# Altium integrated library TI Amplifiers and Linear Operational Amplifier Fully Differential Amplifier.IntLib: 262 symbols (part 9 of 11)
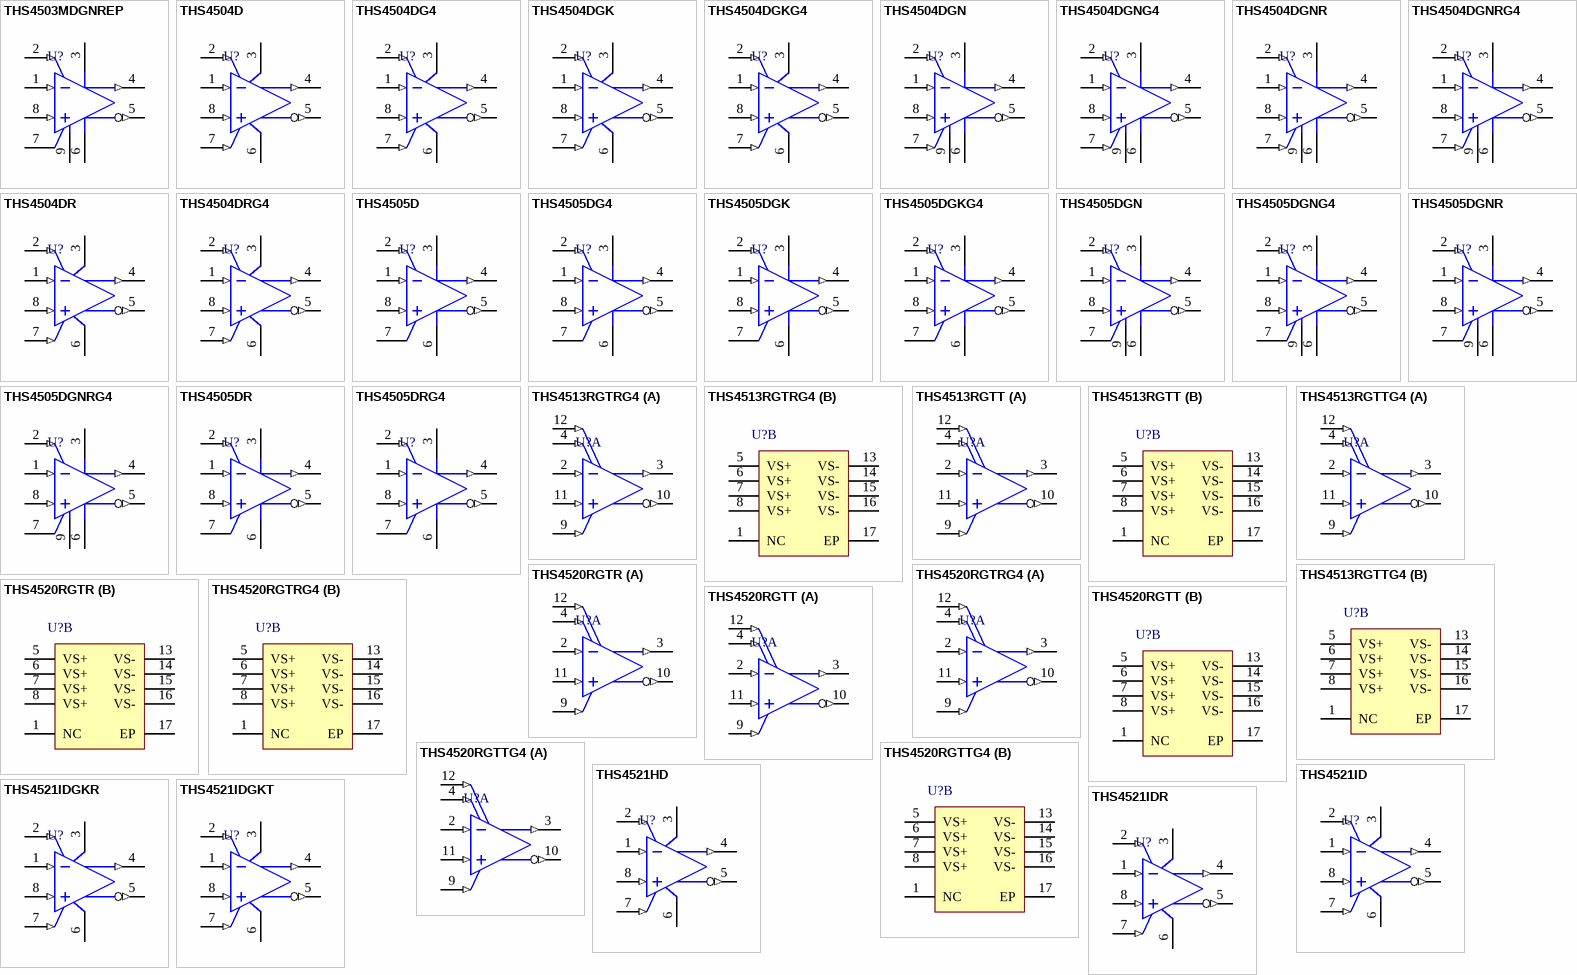
[diagram p15: symbols THS4503MDGNREP to THS4521IDR]

## THS4505DGK
designator U?
Wideband, Low-Distortion Fully Differential Amplifier, 4.5 to 15 V, -40 to 85 degC, 8-pin SOP (DGK8), Green (RoHS & no Sb/Br); Manufacturer: Texas Instruments; PartNumber: THS4505DGK; 2nd Harmonic(dBc): 66; 3rd Harmonic(dBc): 65; @ MHz: 30; BW @ Acl(MHz): 260; Io(Typ)(mA): 100; Iq per channel(Max)(mA): 21; Number of Channels: 1; Offset Voltage Drift (+/-)(Max)(uV/Degrees Celsius: 10; Settling Time (0.1%)(Typ)(ns): 20; Slew Rate(Typ)(V/us): 1800; THD (Fc is 1 MHz)(Typ)(dB): -78; Vio(Max)(mV): -7; Vn at Flatband(Typ)(nV/rtHz): 8; Vs(Max)(V): 15; Vs(Min)(V): 4.5; DatasheetVersion: SLOS363D; PackageVersion: 4073329/E, 05/2006; PackageReference: DGK8; PackageDescription: 8-Pin Thin Small Outline, Body 3 x 3 mm, Pitch 0.65 mm; Supplier 1: Digi-Key; Supplier Part Number 1: 296-16791-5-ND; Supplier 2: Farnell; Supplier Part Number 2: 1534479; Supplier 3: Newark; Supplier Part Number 3: 01J0893; Supplier 4: Mouser; Supplier Part Number 4: 595-THS4505DGK; Eco-Plan: Green (RoHS & no Sb/Br); SubFamily: Fully Differential Amplifier; Mounting Technology: Surface Mount; Code_JEDEC: MO-187; ComponentLink1Description: Manufacturer URL; ComponentLink1URL: http://www.ti.com/; ComponentLink2Description: Datasheet; ComponentLink2URL: http://www.ti.com/general/docs/lit/getliterature.tsp?genericPartNumber=THS4505&fileType=pdf; ComponentLink3Description: Package Specification; ComponentLink3URL: http://www.ti.com/litv/pdf/mpds028d
footprint TI-DGK8_N (SOP, 8-Leads, Body 3x3mm, Pitch 0.65mm, IPC Medium Density)
footprint TI-DGK8_L (SOP, 8-Leads, Body 3x3mm, Pitch 0.65mm, IPC High Density)
footprint TI-DGK8_M (SOP, 8-Leads, Body 3x3mm, Pitch 0.65mm, IPC Low Density)
pins: 1 VIN- (in), 2 VOCM (in), 3 VS+ (power), 4 VOUT+ (out), 5 VOUT- (out), 6 VS- (power), 7 NC, 8 VIN+ (in)

## THS4505DGKG4
designator U?
Wideband, Low-Distortion Fully Differential Amplifier, 4.5 to 15 V, -40 to 85 degC, 8-pin SOP (DGK8), Green (RoHS & no Sb/Br); Manufacturer: Texas Instruments; PartNumber: THS4505DGKG4; 2nd Harmonic(dBc): 66; 3rd Harmonic(dBc): 65; @ MHz: 30; BW @ Acl(MHz): 260; Io(Typ)(mA): 100; Iq per channel(Max)(mA): 21; Number of Channels: 1; Offset Voltage Drift (+/-)(Max)(uV/Degrees Celsius: 10; Settling Time (0.1%)(Typ)(ns): 20; Slew Rate(Typ)(V/us): 1800; THD (Fc is 1 MHz)(Typ)(dB): -78; Vio(Max)(mV): -7; Vn at Flatband(Typ)(nV/rtHz): 8; Vs(Max)(V): 15; Vs(Min)(V): 4.5; DatasheetVersion: SLOS363D; PackageVersion: 4073329/E, 05/2006; PackageReference: DGK8; PackageDescription: 8-Pin Thin Small Outline, Body 3 x 3 mm, Pitch 0.65 mm; Supplier 1: Digi-Key; Supplier Part Number 1: THS4505DGKG4-ND; Supplier 2: Mouser; Supplier Part Number 2: 595-THS4505DGKG4; Eco-Plan: Green (RoHS & no Sb/Br); SubFamily: Fully Differential Amplifier; Mounting Technology: Surface Mount; Code_JEDEC: MO-187; ComponentLink1Description: Manufacturer URL; ComponentLink1URL: http://www.ti.com/; ComponentLink2Description: Datasheet; ComponentLink2URL: http://www.ti.com/general/docs/lit/getliterature.tsp?genericPartNumber=THS4505&fileType=pdf; ComponentLink3Description: Package Specification; ComponentLink3URL: http://www.ti.com/litv/pdf/mpds028d
footprint TI-DGK8_N (SOP, 8-Leads, Body 3x3mm, Pitch 0.65mm, IPC Medium Density)
footprint TI-DGK8_L (SOP, 8-Leads, Body 3x3mm, Pitch 0.65mm, IPC High Density)
footprint TI-DGK8_M (SOP, 8-Leads, Body 3x3mm, Pitch 0.65mm, IPC Low Density)
pins: 1 VIN- (in), 2 VOCM (in), 3 VS+ (power), 4 VOUT+ (out), 5 VOUT- (out), 6 VS- (power), 7 NC, 8 VIN+ (in)

## THS4505DGN
designator U?
Wideband, Low-Distortion Fully Differential Amplifier, 4.5 to 15 V, -40 to 85 degC, 8-pin SOP (DGN8), Green (RoHS & no Sb/Br); Manufacturer: Texas Instruments; PartNumber: THS4505DGN; 2nd Harmonic(dBc): 66; 3rd Harmonic(dBc): 65; @ MHz: 30; BW @ Acl(MHz): 260; Io(Typ)(mA): 100; Iq per channel(Max)(mA): 21; Number of Channels: 1; Offset Voltage Drift (+/-)(Max)(uV/Degrees Celsius: 10; Settling Time (0.1%)(Typ)(ns): 20; Slew Rate(Typ)(V/us): 1800; THD (Fc is 1 MHz)(Typ)(dB): -78; Vio(Max)(mV): -7; Vn at Flatband(Typ)(nV/rtHz): 8; Vs(Max)(V): 15; Vs(Min)(V): 4.5; DatasheetVersion: SLOS363D; PackageVersion: 4073271/F, 05/2011; PackageReference: DGN8-1760X1425TP; PackageDescription: 8-Pin Plastic Small Outline, Body 3 x 3 mm, Pitch 0.65 mm; Supplier 1: Digi-Key; Supplier Part Number 1: 296-15621-5-ND; Supplier 2: Newark; Supplier Part Number 2: 02E7138; Supplier 3: Mouser; Supplier Part Number 3: 595-THS4505DGN; Eco-Plan: Green (RoHS & no Sb/Br); SubFamily: Fully Differential Amplifier; Mounting Technology: Surface Mount; Code_JEDEC: MO-187; ComponentLink1Description: Manufacturer URL; ComponentLink1URL: http://www.ti.com/; ComponentLink2Description: Datasheet; ComponentLink2URL: http://www.ti.com/general/docs/lit/getliterature.tsp?genericPartNumber=THS4505&fileType=pdf; ComponentLink3Description: Package Specification; ComponentLink3URL: http://www.ti.com/litv/pdf/mpds046e
footprint TI-DGN8-1760X1425TP_N (SOP, 8-Leads, Body 3x3mm, Pitch 0.65mm, Thermal Pad 1.76x1.425mm, IPC Medium Density)
footprint TI-DGN8-1760X1425TP_L (SOP, 8-Leads, Body 3x3mm, Pitch 0.65mm, Thermal Pad 1.76x1.425mm, IPC High Density)
footprint TI-DGN8-1760X1425TP_M (SOP, 8-Leads, Body 3x3mm, Pitch 0.65mm, Thermal Pad 1.76 x 1.425 mm, IPC Low Density)
pins: 1 VIN- (in), 2 VOCM (in), 3 VS+ (power), 4 VOUT+ (out), 5 VOUT- (out), 6 VS- (power), 7 NC, 8 VIN+ (in), 9 EP

## THS4505DGNG4
designator U?
Wideband, Low-Distortion Fully Differential Amplifier, 4.5 to 15 V, -40 to 85 degC, 8-pin SOP (DGN8), Green (RoHS & no Sb/Br); Manufacturer: Texas Instruments; PartNumber: THS4505DGNG4; 2nd Harmonic(dBc): 66; 3rd Harmonic(dBc): 65; @ MHz: 30; BW @ Acl(MHz): 260; Io(Typ)(mA): 100; Iq per channel(Max)(mA): 21; Number of Channels: 1; Offset Voltage Drift (+/-)(Max)(uV/Degrees Celsius: 10; Settling Time (0.1%)(Typ)(ns): 20; Slew Rate(Typ)(V/us): 1800; THD (Fc is 1 MHz)(Typ)(dB): -78; Vio(Max)(mV): -7; Vn at Flatband(Typ)(nV/rtHz): 8; Vs(Max)(V): 15; Vs(Min)(V): 4.5; DatasheetVersion: SLOS363D; PackageVersion: 4073271/F, 05/2011; PackageReference: DGN8-1760X1425TP; PackageDescription: 8-Pin Plastic Small Outline, Body 3 x 3 mm, Pitch 0.65 mm; Supplier 1: Digi-Key; Supplier Part Number 1: THS4505DGNG4-ND; Supplier 2: Mouser; Supplier Part Number 2: 595-THS4505DGNG4; Eco-Plan: Green (RoHS & no Sb/Br); SubFamily: Fully Differential Amplifier; Mounting Technology: Surface Mount; Code_JEDEC: MO-187; ComponentLink1Description: Manufacturer URL; ComponentLink1URL: http://www.ti.com/; ComponentLink2Description: Datasheet; ComponentLink2URL: http://www.ti.com/general/docs/lit/getliterature.tsp?genericPartNumber=THS4505&fileType=pdf; ComponentLink3Description: Package Specification; ComponentLink3URL: http://www.ti.com/litv/pdf/mpds046e
footprint TI-DGN8-1760X1425TP_N (SOP, 8-Leads, Body 3x3mm, Pitch 0.65mm, Thermal Pad 1.76x1.425mm, IPC Medium Density)
footprint TI-DGN8-1760X1425TP_L (SOP, 8-Leads, Body 3x3mm, Pitch 0.65mm, Thermal Pad 1.76x1.425mm, IPC High Density)
footprint TI-DGN8-1760X1425TP_M (SOP, 8-Leads, Body 3x3mm, Pitch 0.65mm, Thermal Pad 1.76 x 1.425 mm, IPC Low Density)
pins: 1 VIN- (in), 2 VOCM (in), 3 VS+ (power), 4 VOUT+ (out), 5 VOUT- (out), 6 VS- (power), 7 NC, 8 VIN+ (in), 9 EP

## THS4505DGNR
designator U?
Wideband, Low-Distortion Fully Differential Amplifier, 4.5 to 15 V, -40 to 85 degC, 8-pin SOP (DGN8), Green (RoHS & no Sb/Br); Manufacturer: Texas Instruments; PartNumber: THS4505DGNR; 2nd Harmonic(dBc): 66; 3rd Harmonic(dBc): 65; @ MHz: 30; BW @ Acl(MHz): 260; Io(Typ)(mA): 100; Iq per channel(Max)(mA): 21; Number of Channels: 1; Offset Voltage Drift (+/-)(Max)(uV/Degrees Celsius: 10; Settling Time (0.1%)(Typ)(ns): 20; Slew Rate(Typ)(V/us): 1800; THD (Fc is 1 MHz)(Typ)(dB): -78; Vio(Max)(mV): -7; Vn at Flatband(Typ)(nV/rtHz): 8; Vs(Max)(V): 15; Vs(Min)(V): 4.5; DatasheetVersion: SLOS363D; PackageVersion: 4073271/F, 05/2011; PackageReference: DGN8-1760X1425TP; PackageDescription: 8-Pin Plastic Small Outline, Body 3 x 3 mm, Pitch 0.65 mm; Supplier 1: Digi-Key; Supplier Part Number 1: THS4505DGNR-ND; Supplier 2: Mouser; Supplier Part Number 2: 595-THS4505DGNR; Eco-Plan: Green (RoHS & no Sb/Br); SubFamily: Fully Differential Amplifier; Mounting Technology: Surface Mount; Code_JEDEC: MO-187; ComponentLink1Description: Manufacturer URL; ComponentLink1URL: http://www.ti.com/; ComponentLink2Description: Datasheet; ComponentLink2URL: http://www.ti.com/general/docs/lit/getliterature.tsp?genericPartNumber=THS4505&fileType=pdf; ComponentLink3Description: Package Specification; ComponentLink3URL: http://www.ti.com/litv/pdf/mpds046e
footprint TI-DGN8-1760X1425TP_N (SOP, 8-Leads, Body 3x3mm, Pitch 0.65mm, Thermal Pad 1.76x1.425mm, IPC Medium Density)
footprint TI-DGN8-1760X1425TP_L (SOP, 8-Leads, Body 3x3mm, Pitch 0.65mm, Thermal Pad 1.76x1.425mm, IPC High Density)
footprint TI-DGN8-1760X1425TP_M (SOP, 8-Leads, Body 3x3mm, Pitch 0.65mm, Thermal Pad 1.76 x 1.425 mm, IPC Low Density)
pins: 1 VIN- (in), 2 VOCM (in), 3 VS+ (power), 4 VOUT+ (out), 5 VOUT- (out), 6 VS- (power), 7 NC, 8 VIN+ (in), 9 EP

## THS4505DGNRG4
designator U?
Wideband, Low-Distortion Fully Differential Amplifier, 4.5 to 15 V, -40 to 85 degC, 8-pin SOP (DGN8), Green (RoHS & no Sb/Br); Manufacturer: Texas Instruments; PartNumber: THS4505DGNRG4; 2nd Harmonic(dBc): 66; 3rd Harmonic(dBc): 65; @ MHz: 30; BW @ Acl(MHz): 260; Io(Typ)(mA): 100; Iq per channel(Max)(mA): 21; Number of Channels: 1; Offset Voltage Drift (+/-)(Max)(uV/Degrees Celsius: 10; Settling Time (0.1%)(Typ)(ns): 20; Slew Rate(Typ)(V/us): 1800; THD (Fc is 1 MHz)(Typ)(dB): -78; Vio(Max)(mV): -7; Vn at Flatband(Typ)(nV/rtHz): 8; Vs(Max)(V): 15; Vs(Min)(V): 4.5; DatasheetVersion: SLOS363D; PackageVersion: 4073271/F, 05/2011; PackageReference: DGN8-1760X1425TP; PackageDescription: 8-Pin Plastic Small Outline, Body 3 x 3 mm, Pitch 0.65 mm; Supplier 1: Digi-Key; Supplier Part Number 1: THS4505DGNRG4-ND; Supplier 2: Mouser; Supplier Part Number 2: 595-THS4505DGNRG4; Eco-Plan: Green (RoHS & no Sb/Br); SubFamily: Fully Differential Amplifier; Mounting Technology: Surface Mount; Code_JEDEC: MO-187; ComponentLink1Description: Manufacturer URL; ComponentLink1URL: http://www.ti.com/; ComponentLink2Description: Datasheet; ComponentLink2URL: http://www.ti.com/general/docs/lit/getliterature.tsp?genericPartNumber=THS4505&fileType=pdf; ComponentLink3Description: Package Specification; ComponentLink3URL: http://www.ti.com/litv/pdf/mpds046e
footprint TI-DGN8-1760X1425TP_N (SOP, 8-Leads, Body 3x3mm, Pitch 0.65mm, Thermal Pad 1.76x1.425mm, IPC Medium Density)
footprint TI-DGN8-1760X1425TP_L (SOP, 8-Leads, Body 3x3mm, Pitch 0.65mm, Thermal Pad 1.76x1.425mm, IPC High Density)
footprint TI-DGN8-1760X1425TP_M (SOP, 8-Leads, Body 3x3mm, Pitch 0.65mm, Thermal Pad 1.76 x 1.425 mm, IPC Low Density)
pins: 1 VIN- (in), 2 VOCM (in), 3 VS+ (power), 4 VOUT+ (out), 5 VOUT- (out), 6 VS- (power), 7 NC, 8 VIN+ (in), 9 EP

## THS4505DR
designator U?
Wideband, Low-Distortion Fully Differential Amplifier, 4.5 to 15 V, -40 to 85 degC, 8-pin SOIC (D8), Green (RoHS & no Sb/Br); Manufacturer: Texas Instruments; PartNumber: THS4505DR; 2nd Harmonic(dBc): 66; 3rd Harmonic(dBc): 65; @ MHz: 30; BW @ Acl(MHz): 260; Io(Typ)(mA): 100; Iq per channel(Max)(mA): 21; Number of Channels: 1; Offset Voltage Drift (+/-)(Max)(uV/Degrees Celsius: 10; Settling Time (0.1%)(Typ)(ns): 20; Slew Rate(Typ)(V/us): 1800; THD (Fc is 1 MHz)(Typ)(dB): -78; Vio(Max)(mV): -7; Vn at Flatband(Typ)(nV/rtHz): 8; Vs(Max)(V): 15; Vs(Min)(V): 4.5; DatasheetVersion: SLOS363D; PackageVersion: 4040047-3/M, 06/2011; PackageReference: D8; PackageDescription: 8-Pin Plastic Small Outline, Body 4.9 x 3.9 mm, Pitch 1.27 mm; Supplier 1: Digi-Key; Supplier Part Number 1: THS4505DR-ND; Supplier 2: Mouser; Supplier Part Number 2: 595-THS4505DR; Eco-Plan: Green (RoHS & no Sb/Br); SubFamily: Fully Differential Amplifier; Mounting Technology: Surface Mount; Code_JEDEC: MS-012; ComponentLink1Description: Manufacturer URL; ComponentLink1URL: http://www.ti.com/; ComponentLink2Description: Datasheet; ComponentLink2URL: http://www.ti.com/general/docs/lit/getliterature.tsp?genericPartNumber=THS4505&fileType=pdf; ComponentLink3Description: Package Specification; ComponentLink3URL: http://www.ti.com/litv/pdf/msoi002j
footprint TI-D8_N (SOIC, 8-Leads, Body 4.9x3.9mm, Pitch 1.27mm, IPC Medium Density)
footprint TI-D8_L (SOIC, 8-Leads, Body 4.9x3.9mm, Pitch 1.27mm, IPC High Density)
footprint TI-D8_M (SOIC, 8-Leads, Body 4.9x3.9mm, Pitch 1.27mm, IPC Low Density)
pins: 1 VIN- (in), 2 VOCM (in), 3 VS+ (power), 4 VOUT+ (out), 5 VOUT- (out), 6 VS- (power), 7 NC, 8 VIN+ (in)

## THS4505DRG4
designator U?
Wideband, Low-Distortion Fully Differential Amplifier, 4.5 to 15 V, -40 to 85 degC, 8-pin SOIC (D8), Green (RoHS & no Sb/Br); Manufacturer: Texas Instruments; PartNumber: THS4505DRG4; 2nd Harmonic(dBc): 66; 3rd Harmonic(dBc): 65; @ MHz: 30; BW @ Acl(MHz): 260; Io(Typ)(mA): 100; Iq per channel(Max)(mA): 21; Number of Channels: 1; Offset Voltage Drift (+/-)(Max)(uV/Degrees Celsius: 10; Settling Time (0.1%)(Typ)(ns): 20; Slew Rate(Typ)(V/us): 1800; THD (Fc is 1 MHz)(Typ)(dB): -78; Vio(Max)(mV): -7; Vn at Flatband(Typ)(nV/rtHz): 8; Vs(Max)(V): 15; Vs(Min)(V): 4.5; DatasheetVersion: SLOS363D; PackageVersion: 4040047-3/M, 06/2011; PackageReference: D8; PackageDescription: 8-Pin Plastic Small Outline, Body 4.9 x 3.9 mm, Pitch 1.27 mm; Supplier 1: Digi-Key; Supplier Part Number 1: THS4505DRG4-ND; Supplier 2: Mouser; Supplier Part Number 2: 595-THS4505DRG4; Eco-Plan: Green (RoHS & no Sb/Br); SubFamily: Fully Differential Amplifier; Mounting Technology: Surface Mount; Code_JEDEC: MS-012; ComponentLink1Description: Manufacturer URL; ComponentLink1URL: http://www.ti.com/; ComponentLink2Description: Datasheet; ComponentLink2URL: http://www.ti.com/general/docs/lit/getliterature.tsp?genericPartNumber=THS4505&fileType=pdf; ComponentLink3Description: Package Specification; ComponentLink3URL: http://www.ti.com/litv/pdf/msoi002j
footprint TI-D8_N (SOIC, 8-Leads, Body 4.9x3.9mm, Pitch 1.27mm, IPC Medium Density)
footprint TI-D8_L (SOIC, 8-Leads, Body 4.9x3.9mm, Pitch 1.27mm, IPC High Density)
footprint TI-D8_M (SOIC, 8-Leads, Body 4.9x3.9mm, Pitch 1.27mm, IPC Low Density)
pins: 1 VIN- (in), 2 VOCM (in), 3 VS+ (power), 4 VOUT+ (out), 5 VOUT- (out), 6 VS- (power), 7 NC, 8 VIN+ (in)

## THS4513RGTRG4
designator U?
Wideband, Low Noise, Low Distortion Fully Differential Amplifier, 3 to 5.5 V, -40 to 85 degC, 16-pin QFN (RGT), Green (RoHS & no Sb/Br); Manufacturer: Texas Instruments; PartNumber: THS4513RGTRG4; 2nd Harmonic(dBc): 66; 3rd Harmonic(dBc): 81; @ MHz: 100; BW @ Acl(MHz): 1600; Io(Typ)(mA): 96; Iq per channel(Max)(mA): 40.9; Number of Channels: 1; Offset Voltage Drift (+/-)(Max)(uV/Degrees Celsius: 2.6; Settling Time (0.1%)(Typ)(ns): 16; Slew Rate(Typ)(V/us): 5100; THD (Fc is 1 MHz)(Typ)(dB): -97; Vio(Max)(mV): 4; Vn at Flatband(Typ)(nV/rtHz): 2.2; Vs(Max)(V): 5.5; Vs(Min)(V): 3; DatasheetVersion: SLOS472E; PackageVersion: 4203495/H, 10/2011; PackageReference: RGT16-1450X1450TP; PackageDescription: 16-Pin Plastic Flat Pack, Body 3 x 3 mm, Pitch 0.5 mm; Supplier 1: Digi-Key; Supplier Part Number 1: THS4513RGTRG4-ND; Supplier 2: Mouser; Supplier Part Number 2: 595-THS4513RGTRG4; Eco-Plan: Green (RoHS & no Sb/Br); SubFamily: Fully Differential Amplifier; Mounting Technology: Surface Mount; Code_JEDEC: MO-220; ComponentLink1Description: Manufacturer URL; ComponentLink1URL: http://www.ti.com/; ComponentLink2Description: Datasheet; ComponentLink2URL: http://www.ti.com/general/docs/lit/getliterature.tsp?genericPartNumber=THS4513&fileType=pdf; ComponentLink3Description: Package Specification; ComponentLink3URL: http://www.ti.com/litv/pdf/mpqf119g
footprint TI-RGT16-1450X1450TP_V (QFN, 16-Leads, Body 3x3mm, Pitch 0.5mm, Thermal Pad 1.45x1.45mm)
part A pins: 2 VIN- (in) "Inverting amplifier input", 3 VOUT+ (out) "Noninverting amplifier output", 4 CM (in) "Common-mode voltage input", 9 CM (in) "Common-mode voltage input", 10 VOUT- (out) "Inverting amplifier output", 11 VIN+ (in) "Noninverting amplifier input", 12 ~{PD} (in) "Power-down, P\D\ = logic low puts part into low-power mode, P\D\ = logic high or open for normal operation"
part B pins: 1 NC "No internal connection", 5 VS+ (power) "Positive amplifier power-supply input", 6 VS+ (power) "Positive amplifier power-supply input", 7 VS+ (power) "Positive amplifier power-supply input", 8 VS+ (power) "Positive amplifier power-supply input", 13 VS- (power) "Negative amplifier power-supply input", 14 VS- (power) "Negative amplifier power-supply input", 15 VS- (power) "Negative amplifier power-supply input", 16 VS- (power) "Negative amplifier power-supply input", 17 EP (power)

## THS4513RGTT
designator U?
Wideband, Low Noise, Low Distortion Fully Differential Amplifier, 3 to 5.5 V, -40 to 85 degC, 16-pin QFN (RGT), Green (RoHS & no Sb/Br); Manufacturer: Texas Instruments; PartNumber: THS4513RGTT; 2nd Harmonic(dBc): 66; 3rd Harmonic(dBc): 81; @ MHz: 100; BW @ Acl(MHz): 1600; Io(Typ)(mA): 96; Iq per channel(Max)(mA): 40.9; Number of Channels: 1; Offset Voltage Drift (+/-)(Max)(uV/Degrees Celsius: 2.6; Settling Time (0.1%)(Typ)(ns): 16; Slew Rate(Typ)(V/us): 5100; THD (Fc is 1 MHz)(Typ)(dB): -97; Vio(Max)(mV): 4; Vn at Flatband(Typ)(nV/rtHz): 2.2; Vs(Max)(V): 5.5; Vs(Min)(V): 3; DatasheetVersion: SLOS472E; PackageVersion: 4203495/H, 10/2011; PackageReference: RGT16-1450X1450TP; PackageDescription: 16-Pin Plastic Flat Pack, Body 3 x 3 mm, Pitch 0.5 mm; Supplier 1: Digi-Key; Supplier Part Number 1: 296-18594-2-ND; Supplier 2: Digi-Key; Supplier Part Number 2: 296-18594-1-ND; Supplier 3: Digi-Key; Supplier Part Number 3: 296-18594-6-ND; Supplier 4: Mouser; Supplier Part Number 4: 595-THS4513RGTT; Eco-Plan: Green (RoHS & no Sb/Br); SubFamily: Fully Differential Amplifier; Mounting Technology: Surface Mount; Code_JEDEC: MO-220; ComponentLink1Description: Manufacturer URL; ComponentLink1URL: http://www.ti.com/; ComponentLink2Description: Datasheet; ComponentLink2URL: http://www.ti.com/general/docs/lit/getliterature.tsp?genericPartNumber=THS4513&fileType=pdf; ComponentLink3Description: Package Specification; ComponentLink3URL: http://www.ti.com/litv/pdf/mpqf119g
footprint TI-RGT16-1450X1450TP_V (QFN, 16-Leads, Body 3x3mm, Pitch 0.5mm, Thermal Pad 1.45x1.45mm)
part A pins: 2 VIN- (in) "Inverting amplifier input", 3 VOUT+ (out) "Noninverting amplifier output", 4 CM (in) "Common-mode voltage input", 9 CM (in) "Common-mode voltage input", 10 VOUT- (out) "Inverting amplifier output", 11 VIN+ (in) "Noninverting amplifier input", 12 ~{PD} (in) "Power-down, P\D\ = logic low puts part into low-power mode, P\D\ = logic high or open for normal operation"
part B pins: 1 NC "No internal connection", 5 VS+ (power) "Positive amplifier power-supply input", 6 VS+ (power) "Positive amplifier power-supply input", 7 VS+ (power) "Positive amplifier power-supply input", 8 VS+ (power) "Positive amplifier power-supply input", 13 VS- (power) "Negative amplifier power-supply input", 14 VS- (power) "Negative amplifier power-supply input", 15 VS- (power) "Negative amplifier power-supply input", 16 VS- (power) "Negative amplifier power-supply input", 17 EP (power)

## THS4513RGTTG4
designator U?
Wideband, Low Noise, Low Distortion Fully Differential Amplifier, 3 to 5.5 V, -40 to 85 degC, 16-pin QFN (RGT), Green (RoHS & no Sb/Br); Manufacturer: Texas Instruments; PartNumber: THS4513RGTTG4; 2nd Harmonic(dBc): 66; 3rd Harmonic(dBc): 81; @ MHz: 100; BW @ Acl(MHz): 1600; Io(Typ)(mA): 96; Iq per channel(Max)(mA): 40.9; Number of Channels: 1; Offset Voltage Drift (+/-)(Max)(uV/Degrees Celsius: 2.6; Settling Time (0.1%)(Typ)(ns): 16; Slew Rate(Typ)(V/us): 5100; THD (Fc is 1 MHz)(Typ)(dB): -97; Vio(Max)(mV): 4; Vn at Flatband(Typ)(nV/rtHz): 2.2; Vs(Max)(V): 5.5; Vs(Min)(V): 3; DatasheetVersion: SLOS472E; PackageVersion: 4203495/H, 10/2011; PackageReference: RGT16-1450X1450TP; PackageDescription: 16-Pin Plastic Flat Pack, Body 3 x 3 mm, Pitch 0.5 mm; Supplier 1: Digi-Key; Supplier Part Number 1: THS4513RGTTG4-ND; Supplier 2: Newark; Supplier Part Number 2: 85K1607; Supplier 3: Mouser; Supplier Part Number 3: 595-THS4513RGTTG4; Eco-Plan: Green (RoHS & no Sb/Br); SubFamily: Fully Differential Amplifier; Mounting Technology: Surface Mount; Code_JEDEC: MO-220; ComponentLink1Description: Manufacturer URL; ComponentLink1URL: http://www.ti.com/; ComponentLink2Description: Datasheet; ComponentLink2URL: http://www.ti.com/general/docs/lit/getliterature.tsp?genericPartNumber=THS4513&fileType=pdf; ComponentLink3Description: Package Specification; ComponentLink3URL: http://www.ti.com/litv/pdf/mpqf119g
footprint TI-RGT16-1450X1450TP_V (QFN, 16-Leads, Body 3x3mm, Pitch 0.5mm, Thermal Pad 1.45x1.45mm)
part A pins: 2 VIN- (in) "Inverting amplifier input", 3 VOUT+ (out) "Noninverting amplifier output", 4 CM (in) "Common-mode voltage input", 9 CM (in) "Common-mode voltage input", 10 VOUT- (out) "Inverting amplifier output", 11 VIN+ (in) "Noninverting amplifier input", 12 ~{PD} (in) "Power-down, P\D\ = logic low puts part into low-power mode, P\D\ = logic high or open for normal operation"
part B pins: 1 NC "No internal connection", 5 VS+ (power) "Positive amplifier power-supply input", 6 VS+ (power) "Positive amplifier power-supply input", 7 VS+ (power) "Positive amplifier power-supply input", 8 VS+ (power) "Positive amplifier power-supply input", 13 VS- (power) "Negative amplifier power-supply input", 14 VS- (power) "Negative amplifier power-supply input", 15 VS- (power) "Negative amplifier power-supply input", 16 VS- (power) "Negative amplifier power-supply input", 17 EP (power)

## THS4520RGTR
designator U?
Rail-to-Rail Output Wideband Fully Differential Amplifier, 3 to 5.25 V, -40 to 85 degC, 16-pin QFN (RGT16), Green (RoHS & no Sb/Br); Manufacturer: Texas Instruments; PartNumber: THS4520RGTR; 2nd Harmonic(dBc): 115; 3rd Harmonic(dBc): 123; @ MHz: 0.1; BW @ Acl(MHz): 620; Io(Typ)(mA): 105; Iq per channel(Max)(mA): 15.3; Number of Channels: 1; Rail-Rail: Out; Settling Time (0.1%)(Typ)(ns): 7; Slew Rate(Typ)(V/us): 570; Vio(Max)(mV): 2.5; Vn at Flatband(Typ)(nV/rtHz): 2; Vs(Max)(V): 5.25; Vs(Min)(V): 3; DatasheetVersion: SLOS503B; PackageVersion: 4203495/H, 10/2011; PackageReference: RGT16-1450X1450TP; PackageDescription: 16-Pin Plastic Flat Pack, Body 3 x 3 mm, Pitch 0.5 mm; Supplier 1: Digi-Key; Supplier Part Number 1: THS4520RGTR-ND; Supplier 2: Newark; Supplier Part Number 2: 18M3153; Supplier 3: Mouser; Supplier Part Number 3: 595-THS4520RGTR; Eco-Plan: Green (RoHS & no Sb/Br); Offset Voltage Drift (+/-)(Max)(uV/Degrees Celsius: 1; SubFamily: Fully Differential Amplifier; Mounting Technology: Surface Mount; Code_JEDEC: MO-220; ComponentLink1Description: Manufacturer URL; ComponentLink1URL: http://www.ti.com/; ComponentLink2Description: Datasheet; ComponentLink2URL: http://www.ti.com/general/docs/lit/getliterature.tsp?genericPartNumber=THS4520&fileType=pdf; ComponentLink3Description: Package Specification; ComponentLink3URL: http://www.ti.com/litv/pdf/mpqf119g
footprint TI-RGT16-1450X1450TP_V (QFN, 16-Leads, Body 3x3mm, Pitch 0.5mm, Thermal Pad 1.45x1.45mm)
part A pins: 2 VIN- (in) "Inverting amplifier input", 3 VOUT+ (out) "Noninverting amplifier output", 4 CM (in) "Common-mode voltage input", 9 CM (in) "Common-mode voltage input", 10 VOUT- (out) "Inverted amplifier output", 11 VIN+ (in) "Noninverting amplifier input", 12 ~{PD} (in) "Powerdown, P\D\ = logic low puts part into low power mode, P\D\ = logic high or open for normal operation. If the PD pin is open (unterminated) the device will default to the enabled state."
part B pins: 1 NC "No internal connection", 5 VS+ (power) "Positive amplifier power supply input", 6 VS+ (power) "Positive amplifier power supply input", 7 VS+ (power) "Positive amplifier power supply input", 8 VS+ (power) "Positive amplifier power supply input", 13 VS- (power) "Negative amplifier power-supply input", 14 VS- (power) "Negative amplifier power-supply input", 15 VS- (power) "Negative amplifier power-supply input", 16 VS- (power) "Negative amplifier power-supply input", 17 EP

## THS4520RGTRG4
designator U?
Rail-to-Rail Output Wideband Fully Differential Amplifier, 3 to 5.25 V, -40 to 85 degC, 16-pin QFN (RGT16), Green (RoHS & no Sb/Br); Manufacturer: Texas Instruments; PartNumber: THS4520RGTRG4; 2nd Harmonic(dBc): 115; 3rd Harmonic(dBc): 123; @ MHz: 0.1; BW @ Acl(MHz): 620; Io(Typ)(mA): 105; Iq per channel(Max)(mA): 15.3; Number of Channels: 1; Rail-Rail: Out; Settling Time (0.1%)(Typ)(ns): 7; Slew Rate(Typ)(V/us): 570; Vio(Max)(mV): 2.5; Vn at Flatband(Typ)(nV/rtHz): 2; Vs(Max)(V): 5.25; Vs(Min)(V): 3; DatasheetVersion: SLOS503B; PackageVersion: 4203495/H, 10/2011; PackageReference: RGT16-1450X1450TP; PackageDescription: 16-Pin Plastic Flat Pack, Body 3 x 3 mm, Pitch 0.5 mm; Supplier 1: Digi-Key; Supplier Part Number 1: THS4520RGTRG4-ND; Supplier 2: Mouser; Supplier Part Number 2: 595-THS4520RGTRG4; Eco-Plan: Green (RoHS & no Sb/Br); Offset Voltage Drift (+/-)(Max)(uV/Degrees Celsius: 1; SubFamily: Fully Differential Amplifier; Mounting Technology: Surface Mount; Code_JEDEC: MO-220; ComponentLink1Description: Manufacturer URL; ComponentLink1URL: http://www.ti.com/; ComponentLink2Description: Datasheet; ComponentLink2URL: http://www.ti.com/general/docs/lit/getliterature.tsp?genericPartNumber=THS4520&fileType=pdf; ComponentLink3Description: Package Specification; ComponentLink3URL: http://www.ti.com/litv/pdf/mpqf119g
footprint TI-RGT16-1450X1450TP_V (QFN, 16-Leads, Body 3x3mm, Pitch 0.5mm, Thermal Pad 1.45x1.45mm)
part A pins: 2 VIN- (in) "Inverting amplifier input", 3 VOUT+ (out) "Noninverting amplifier output", 4 CM (in) "Common-mode voltage input", 9 CM (in) "Common-mode voltage input", 10 VOUT- (out) "Inverted amplifier output", 11 VIN+ (in) "Noninverting amplifier input", 12 ~{PD} (in) "Powerdown, P\D\ = logic low puts part into low power mode, P\D\ = logic high or open for normal operation. If the PD pin is open (unterminated) the device will default to the enabled state."
part B pins: 1 NC "No internal connection", 5 VS+ (power) "Positive amplifier power supply input", 6 VS+ (power) "Positive amplifier power supply input", 7 VS+ (power) "Positive amplifier power supply input", 8 VS+ (power) "Positive amplifier power supply input", 13 VS- (power) "Negative amplifier power-supply input", 14 VS- (power) "Negative amplifier power-supply input", 15 VS- (power) "Negative amplifier power-supply input", 16 VS- (power) "Negative amplifier power-supply input", 17 EP

## THS4520RGTT
designator U?
Rail-to-Rail Output Wideband Fully Differential Amplifier, 3 to 5.25 V, -40 to 85 degC, 16-pin QFN (RGT16), Green (RoHS & no Sb/Br); Manufacturer: Texas Instruments; PartNumber: THS4520RGTT; 2nd Harmonic(dBc): 115; 3rd Harmonic(dBc): 123; @ MHz: 0.1; BW @ Acl(MHz): 620; Io(Typ)(mA): 105; Iq per channel(Max)(mA): 15.3; Number of Channels: 1; Rail-Rail: Out; Settling Time (0.1%)(Typ)(ns): 7; Slew Rate(Typ)(V/us): 570; Vio(Max)(mV): 2.5; Vn at Flatband(Typ)(nV/rtHz): 2; Vs(Max)(V): 5.25; Vs(Min)(V): 3; DatasheetVersion: SLOS503B; PackageVersion: 4203495/H, 10/2011; PackageReference: RGT16-1450X1450TP; PackageDescription: 16-Pin Plastic Flat Pack, Body 3 x 3 mm, Pitch 0.5 mm; Supplier 1: Digi-Key; Supplier Part Number 1: 296-20774-2-ND; Supplier 2: Digi-Key; Supplier Part Number 2: 296-20774-1-ND; Supplier 3: Digi-Key; Supplier Part Number 3: 296-20774-6-ND; Supplier 4: Newark; Supplier Part Number 4: 18M3154; Supplier 5: Newark; Supplier Part Number 5: 28X4464; Supplier 6: Mouser; Supplier Part Number 6: 595-THS4520RGTT; Eco-Plan: Green (RoHS & no Sb/Br); Offset Voltage Drift (+/-)(Max)(uV/Degrees Celsius: 1; SubFamily: Fully Differential Amplifier; Mounting Technology: Surface Mount; Code_JEDEC: MO-220; ComponentLink1Description: Manufacturer URL; ComponentLink1URL: http://www.ti.com/; ComponentLink2Description: Datasheet; ComponentLink2URL: http://www.ti.com/general/docs/lit/getliterature.tsp?genericPartNumber=THS4520&fileType=pdf; ComponentLink3Description: Package Specification; ComponentLink3URL: http://www.ti.com/litv/pdf/mpqf119g
footprint TI-RGT16-1450X1450TP_V (QFN, 16-Leads, Body 3x3mm, Pitch 0.5mm, Thermal Pad 1.45x1.45mm)
part A pins: 2 VIN- (in) "Inverting amplifier input", 3 VOUT+ (out) "Noninverting amplifier output", 4 CM (in) "Common-mode voltage input", 9 CM (in) "Common-mode voltage input", 10 VOUT- (out) "Inverted amplifier output", 11 VIN+ (in) "Noninverting amplifier input", 12 ~{PD} (in) "Powerdown, P\D\ = logic low puts part into low power mode, P\D\ = logic high or open for normal operation. If the PD pin is open (unterminated) the device will default to the enabled state."
part B pins: 1 NC "No internal connection", 5 VS+ (power) "Positive amplifier power supply input", 6 VS+ (power) "Positive amplifier power supply input", 7 VS+ (power) "Positive amplifier power supply input", 8 VS+ (power) "Positive amplifier power supply input", 13 VS- (power) "Negative amplifier power-supply input", 14 VS- (power) "Negative amplifier power-supply input", 15 VS- (power) "Negative amplifier power-supply input", 16 VS- (power) "Negative amplifier power-supply input", 17 EP

## THS4520RGTTG4
designator U?
Rail-to-Rail Output Wideband Fully Differential Amplifier, 3 to 5.25 V, -40 to 85 degC, 16-pin QFN (RGT16), Green (RoHS & no Sb/Br); Manufacturer: Texas Instruments; PartNumber: THS4520RGTTG4; 2nd Harmonic(dBc): 115; 3rd Harmonic(dBc): 123; @ MHz: 0.1; BW @ Acl(MHz): 620; Io(Typ)(mA): 105; Iq per channel(Max)(mA): 15.3; Number of Channels: 1; Rail-Rail: Out; Settling Time (0.1%)(Typ)(ns): 7; Slew Rate(Typ)(V/us): 570; Vio(Max)(mV): 2.5; Vn at Flatband(Typ)(nV/rtHz): 2; Vs(Max)(V): 5.25; Vs(Min)(V): 3; DatasheetVersion: SLOS503B; PackageVersion: 4203495/H, 10/2011; PackageReference: RGT16-1450X1450TP; PackageDescription: 16-Pin Plastic Flat Pack, Body 3 x 3 mm, Pitch 0.5 mm; Supplier 1: Digi-Key; Supplier Part Number 1: THS4520RGTTG4-ND; Supplier 2: Newark; Supplier Part Number 2: 20M5798; Supplier 3: Mouser; Supplier Part Number 3: 595-THS4520RGTTG4; Eco-Plan: Green (RoHS & no Sb/Br); Offset Voltage Drift (+/-)(Max)(uV/Degrees Celsius: 1; SubFamily: Fully Differential Amplifier; Mounting Technology: Surface Mount; Code_JEDEC: MO-220; ComponentLink1Description: Manufacturer URL; ComponentLink1URL: http://www.ti.com/; ComponentLink2Description: Datasheet; ComponentLink2URL: http://www.ti.com/general/docs/lit/getliterature.tsp?genericPartNumber=THS4520&fileType=pdf; ComponentLink3Description: Package Specification; ComponentLink3URL: http://www.ti.com/litv/pdf/mpqf119g
footprint TI-RGT16-1450X1450TP_V (QFN, 16-Leads, Body 3x3mm, Pitch 0.5mm, Thermal Pad 1.45x1.45mm)
part A pins: 2 VIN- (in) "Inverting amplifier input", 3 VOUT+ (out) "Noninverting amplifier output", 4 CM (in) "Common-mode voltage input", 9 CM (in) "Common-mode voltage input", 10 VOUT- (out) "Inverted amplifier output", 11 VIN+ (in) "Noninverting amplifier input", 12 ~{PD} (in) "Powerdown, P\D\ = logic low puts part into low power mode, P\D\ = logic high or open for normal operation. If the PD pin is open (unterminated) the device will default to the enabled state."
part B pins: 1 NC "No internal connection", 5 VS+ (power) "Positive amplifier power supply input", 6 VS+ (power) "Positive amplifier power supply input", 7 VS+ (power) "Positive amplifier power supply input", 8 VS+ (power) "Positive amplifier power supply input", 13 VS- (power) "Negative amplifier power-supply input", 14 VS- (power) "Negative amplifier power-supply input", 15 VS- (power) "Negative amplifier power-supply input", 16 VS- (power) "Negative amplifier power-supply input", 17 EP

## THS4521HD
designator U?
High Temperature, Very Low Power, Negative Rail Input, Rail-to-Rail Output, Differential Amplifier, 2.5 to 3.6 V, -55 to 175 degC, 8-pin SOIC (D8), Green (RoHS & no Sb/Br); Manufacturer: Texas Instruments; PartNumber: THS4521HD; 2nd Harmonic(dBc): 96; 3rd Harmonic(dBc): 91.5; @ MHz: 0.01; BW @ Acl(MHz): 40.7; Io(Typ)(mA): 33; Iq per channel(Max)(mA): 1.4; Number of Channels: 1; Offset Voltage Drift (+/-)(Max)(uV/Degrees Celsius: 50; Rail-Rail: Out; Slew Rate(Typ)(V/us): 39; SubFamily: Fully Differential Amplifier; Vio(Max)(mV): 11.5; Vn at Flatband(Typ)(nV/rtHz): 19.95; Vs(Max)(V): 3.6; Vs(Min)(V): 2.5; DatasheetVersion: SBOS548D; PackageVersion: 4040047-3/M, 06/2011; PackageReference: D8; PackageDescription: 8-Pin Plastic Small Outline, Body 4.9 x 3.9 mm, Pitch 1.27 mm; Supplier 1: Digi-Key; Supplier Part Number 1: THS4521HD-ND; Supplier 2: Newark; Supplier Part Number 2: 76T8041; Supplier 3: Mouser; Supplier Part Number 3: 595-THS4521HD; Eco-Plan: Green (RoHS & no Sb/Br); Mounting Technology: Surface Mount; Code_JEDEC: MS-012; ComponentLink1Description: Manufacturer URL; ComponentLink1URL: http://www.ti.com/; ComponentLink2Description: Datasheet; ComponentLink2URL: http://www.ti.com/general/docs/lit/getliterature.tsp?genericPartNumber=THS4521-HT&fileType=pdf; ComponentLink3Description: Package Specification; ComponentLink3URL: http://www.ti.com/litv/pdf/msoi002j
footprint TI-D8_N (SOIC, 8-Leads, Body 4.9x3.9mm, Pitch 1.27mm, IPC Medium Density)
footprint TI-D8_L (SOIC, 8-Leads, Body 4.9x3.9mm, Pitch 1.27mm, IPC High Density)
footprint TI-D8_M (SOIC, 8-Leads, Body 4.9x3.9mm, Pitch 1.27mm, IPC Low Density)
pins: 1 VIN- (in) "Inverting amplifier input", 2 VOCM (in) "Common-mode voltage input", 3 VS+ (power) "Amplifier positive power-supply input", 4 VOUT+ (out) "Noninverting amplifier output", 5 VOUT- (out) "Inverting amplifier output", 6 VS- (power) "Amplifier negative power-supply input. Note that VS- is tied together on multi-channel devices.", 7 ~{PD} (in) "Power down. P\D\ = logic low puts device into low-power mode. P\D\ = logic high or open for normal operation.", 8 VIN+ (in) "Noninverting amplifier input"

## THS4521ID
designator U?
Very Low Power Rail-to-Rail Output Fully Differential Amplifier, 2.5 to 5.5 V, -40 to 85 degC, 8-pin SOIC (D8), Green (RoHS & no Sb/Br); Manufacturer: Texas Instruments; PartNumber: THS4521ID; 2nd Harmonic(dBc): 133; 3rd Harmonic(dBc): 140; @ MHz: 0.01; BW @ Acl(MHz): 145; Io(Typ)(mA): 55; Iq per channel(Max)(mA): 1.25; Number of Channels: 1; Rail-Rail: Out; Slew Rate(Typ)(V/us): 490; Vio(Max)(mV): 2; Vn at Flatband(Typ)(nV/rtHz): 4.6; Vs(Max)(V): 5.5; Vs(Min)(V): 2.5; DatasheetVersion: SBOS458F; PackageVersion: 4040047-3/M, 06/2011; PackageReference: D8; PackageDescription: 8-Pin Plastic Small Outline, Body 4.9 x 3.9 mm, Pitch 1.27 mm; Supplier 1: Digi-Key; Supplier Part Number 1: 296-24076-5-ND; Supplier 2: Farnell; Supplier Part Number 2: 1755707; Supplier 3: Newark; Supplier Part Number 3: 45P2938; Supplier 4: Mouser; Supplier Part Number 4: 595-THS4521ID; Eco-Plan: Green (RoHS & no Sb/Br); SubFamily: Fully Differential Amplifier; Mounting Technology: Surface Mount; Code_JEDEC: MS-012; ComponentLink1Description: Manufacturer URL; ComponentLink1URL: http://www.ti.com/; ComponentLink2Description: Datasheet; ComponentLink2URL: http://www.ti.com/general/docs/lit/getliterature.tsp?genericPartNumber=THS4521&fileType=pdf; ComponentLink3Description: Package Specification; ComponentLink3URL: http://www.ti.com/litv/pdf/msoi002j
footprint TI-D8_N (SOIC, 8-Leads, Body 4.9x3.9mm, Pitch 1.27mm, IPC Medium Density)
footprint TI-D8_L (SOIC, 8-Leads, Body 4.9x3.9mm, Pitch 1.27mm, IPC High Density)
footprint TI-D8_M (SOIC, 8-Leads, Body 4.9x3.9mm, Pitch 1.27mm, IPC Low Density)
pins: 1 VIN- (in) "Inverting amplifier input", 2 VOCM (in) "Common-mode voltage input", 3 VS+ (power) "Amplifier positive power-supply input", 4 VOUT+ (out) "Noninverting amplifier output", 5 VOUT- (out) "Inverting amplifier output", 6 VS- (power) "Amplifier negative power-supply input. Note that VS- is tied together on multi-channel devices.", 7 ~{PD} (in) "Power down. P\D\ = logic low puts device into low-power mode. P\D\ = logic high or open for normal operation.", 8 VIN+ (in) "Noninverting amplifier input"

## THS4521IDGKR
designator U?
Very Low Power Rail-to-Rail Output Fully Differential Amplifier, 2.5 to 5.5 V, -40 to 85 degC, 8-pin SOP (DGK8), Green (RoHS & no Sb/Br); Manufacturer: Texas Instruments; PartNumber: THS4521IDGKR; 2nd Harmonic(dBc): 133; 3rd Harmonic(dBc): 140; @ MHz: 0.01; BW @ Acl(MHz): 145; Io(Typ)(mA): 55; Iq per channel(Max)(mA): 1.25; Number of Channels: 1; Rail-Rail: Out; Slew Rate(Typ)(V/us): 490; Vio(Max)(mV): 2; Vn at Flatband(Typ)(nV/rtHz): 4.6; Vs(Max)(V): 5.5; Vs(Min)(V): 2.5; DatasheetVersion: SBOS458F; PackageVersion: 4073329/E, 05/2006; PackageReference: DGK8; PackageDescription: 8-Pin Thin Small Outline, Body 3 x 3 mm, Pitch 0.65 mm; Supplier 1: Digi-Key; Supplier Part Number 1: 296-35973-2-ND; Supplier 2: Digi-Key; Supplier Part Number 2: 296-35973-1-ND; Supplier 3: Digi-Key; Supplier Part Number 3: 296-35973-6-ND; Supplier 4: Newark; Supplier Part Number 4: 45P8206; Supplier 5: Mouser; Supplier Part Number 5: 595-THS4521IDGKR; Eco-Plan: Green (RoHS & no Sb/Br); SubFamily: Fully Differential Amplifier; Mounting Technology: Surface Mount; Code_JEDEC: MO-187; ComponentLink1Description: Manufacturer URL; ComponentLink1URL: http://www.ti.com/; ComponentLink2Description: Datasheet; ComponentLink2URL: http://www.ti.com/general/docs/lit/getliterature.tsp?genericPartNumber=THS4521&fileType=pdf; ComponentLink3Description: Package Specification; ComponentLink3URL: http://www.ti.com/litv/pdf/mpds028d
footprint TI-DGK8_N (SOP, 8-Leads, Body 3x3mm, Pitch 0.65mm, IPC Medium Density)
footprint TI-DGK8_L (SOP, 8-Leads, Body 3x3mm, Pitch 0.65mm, IPC High Density)
footprint TI-DGK8_M (SOP, 8-Leads, Body 3x3mm, Pitch 0.65mm, IPC Low Density)
pins: 1 VIN- (in) "Inverting amplifier input", 2 VOCM (in) "Common-mode voltage input", 3 VS+ (power) "Amplifier positive power-supply input", 4 VOUT+ (out) "Noninverting amplifier output", 5 VOUT- (out) "Inverting amplifier output", 6 VS- (power) "Amplifier negative power-supply input. Note that VS- is tied together on multi-channel devices.", 7 ~{PD} (in) "Power down. P\D\ = logic low puts device into low-power mode. P\D\ = logic high or open for normal operation.", 8 VIN+ (in) "Noninverting amplifier input"

## THS4521IDGKT
designator U?
Very Low Power Rail-to-Rail Output Fully Differential Amplifier, 2.5 to 5.5 V, -40 to 85 degC, 8-pin SOP (DGK8), Green (RoHS & no Sb/Br); Manufacturer: Texas Instruments; PartNumber: THS4521IDGKT; 2nd Harmonic(dBc): 133; 3rd Harmonic(dBc): 140; @ MHz: 0.01; BW @ Acl(MHz): 145; Io(Typ)(mA): 55; Iq per channel(Max)(mA): 1.25; Number of Channels: 1; Rail-Rail: Out; Slew Rate(Typ)(V/us): 490; Vio(Max)(mV): 2; Vn at Flatband(Typ)(nV/rtHz): 4.6; Vs(Max)(V): 5.5; Vs(Min)(V): 2.5; DatasheetVersion: SBOS458F; PackageVersion: 4073329/E, 05/2006; PackageReference: DGK8; PackageDescription: 8-Pin Thin Small Outline, Body 3 x 3 mm, Pitch 0.65 mm; Supplier 1: Digi-Key; Supplier Part Number 1: 296-24077-2-ND; Supplier 2: Digi-Key; Supplier Part Number 2: 296-24077-1-ND; Supplier 3: Digi-Key; Supplier Part Number 3: 296-24077-6-ND; Supplier 4: Newark; Supplier Part Number 4: 45P2939; Supplier 5: Newark; Supplier Part Number 5: 28X4465; Supplier 6: Mouser; Supplier Part Number 6: 595-THS4521IDGKT; Eco-Plan: Green (RoHS & no Sb/Br); SubFamily: Fully Differential Amplifier; Mounting Technology: Surface Mount; Code_JEDEC: MO-187; ComponentLink1Description: Manufacturer URL; ComponentLink1URL: http://www.ti.com/; ComponentLink2Description: Datasheet; ComponentLink2URL: http://www.ti.com/general/docs/lit/getliterature.tsp?genericPartNumber=THS4521&fileType=pdf; ComponentLink3Description: Package Specification; ComponentLink3URL: http://www.ti.com/litv/pdf/mpds028d
footprint TI-DGK8_N (SOP, 8-Leads, Body 3x3mm, Pitch 0.65mm, IPC Medium Density)
footprint TI-DGK8_L (SOP, 8-Leads, Body 3x3mm, Pitch 0.65mm, IPC High Density)
footprint TI-DGK8_M (SOP, 8-Leads, Body 3x3mm, Pitch 0.65mm, IPC Low Density)
pins: 1 VIN- (in) "Inverting amplifier input", 2 VOCM (in) "Common-mode voltage input", 3 VS+ (power) "Amplifier positive power-supply input", 4 VOUT+ (out) "Noninverting amplifier output", 5 VOUT- (out) "Inverting amplifier output", 6 VS- (power) "Amplifier negative power-supply input. Note that VS- is tied together on multi-channel devices.", 7 ~{PD} (in) "Power down. P\D\ = logic low puts device into low-power mode. P\D\ = logic high or open for normal operation.", 8 VIN+ (in) "Noninverting amplifier input"

## THS4521IDR
designator U?
Very Low Power Rail-to-Rail Output Fully Differential Amplifier, 2.5 to 5.5 V, -40 to 85 degC, 8-pin SOIC (D8), Green (RoHS & no Sb/Br); Manufacturer: Texas Instruments; PartNumber: THS4521IDR; 2nd Harmonic(dBc): 133; 3rd Harmonic(dBc): 140; @ MHz: 0.01; BW @ Acl(MHz): 145; Io(Typ)(mA): 55; Iq per channel(Max)(mA): 1.25; Number of Channels: 1; Rail-Rail: Out; Slew Rate(Typ)(V/us): 490; Vio(Max)(mV): 2; Vn at Flatband(Typ)(nV/rtHz): 4.6; Vs(Max)(V): 5.5; Vs(Min)(V): 2.5; DatasheetVersion: SBOS458F; PackageVersion: 4040047-3/M, 06/2011; PackageReference: D8; PackageDescription: 8-Pin Plastic Small Outline, Body 4.9 x 3.9 mm, Pitch 1.27 mm; Supplier 1: Digi-Key; Supplier Part Number 1: THS4521IDR-ND; Supplier 2: Newark; Supplier Part Number 2: 45P8207; Supplier 3: Mouser; Supplier Part Number 3: 595-THS4521IDR; Eco-Plan: Green (RoHS & no Sb/Br); SubFamily: Fully Differential Amplifier; Mounting Technology: Surface Mount; Code_JEDEC: MS-012; ComponentLink1Description: Manufacturer URL; ComponentLink1URL: http://www.ti.com/; ComponentLink2Description: Datasheet; ComponentLink2URL: http://www.ti.com/general/docs/lit/getliterature.tsp?genericPartNumber=THS4521&fileType=pdf; ComponentLink3Description: Package Specification; ComponentLink3URL: http://www.ti.com/litv/pdf/msoi002j
footprint TI-D8_N (SOIC, 8-Leads, Body 4.9x3.9mm, Pitch 1.27mm, IPC Medium Density)
footprint TI-D8_L (SOIC, 8-Leads, Body 4.9x3.9mm, Pitch 1.27mm, IPC High Density)
footprint TI-D8_M (SOIC, 8-Leads, Body 4.9x3.9mm, Pitch 1.27mm, IPC Low Density)
pins: 1 VIN- (in) "Inverting amplifier input", 2 VOCM (in) "Common-mode voltage input", 3 VS+ (power) "Amplifier positive power-supply input", 4 VOUT+ (out) "Noninverting amplifier output", 5 VOUT- (out) "Inverting amplifier output", 6 VS- (power) "Amplifier negative power-supply input. Note that VS- is tied together on multi-channel devices.", 7 ~{PD} (in) "Power down. P\D\ = logic low puts device into low-power mode. P\D\ = logic high or open for normal operation.", 8 VIN+ (in) "Noninverting amplifier input"

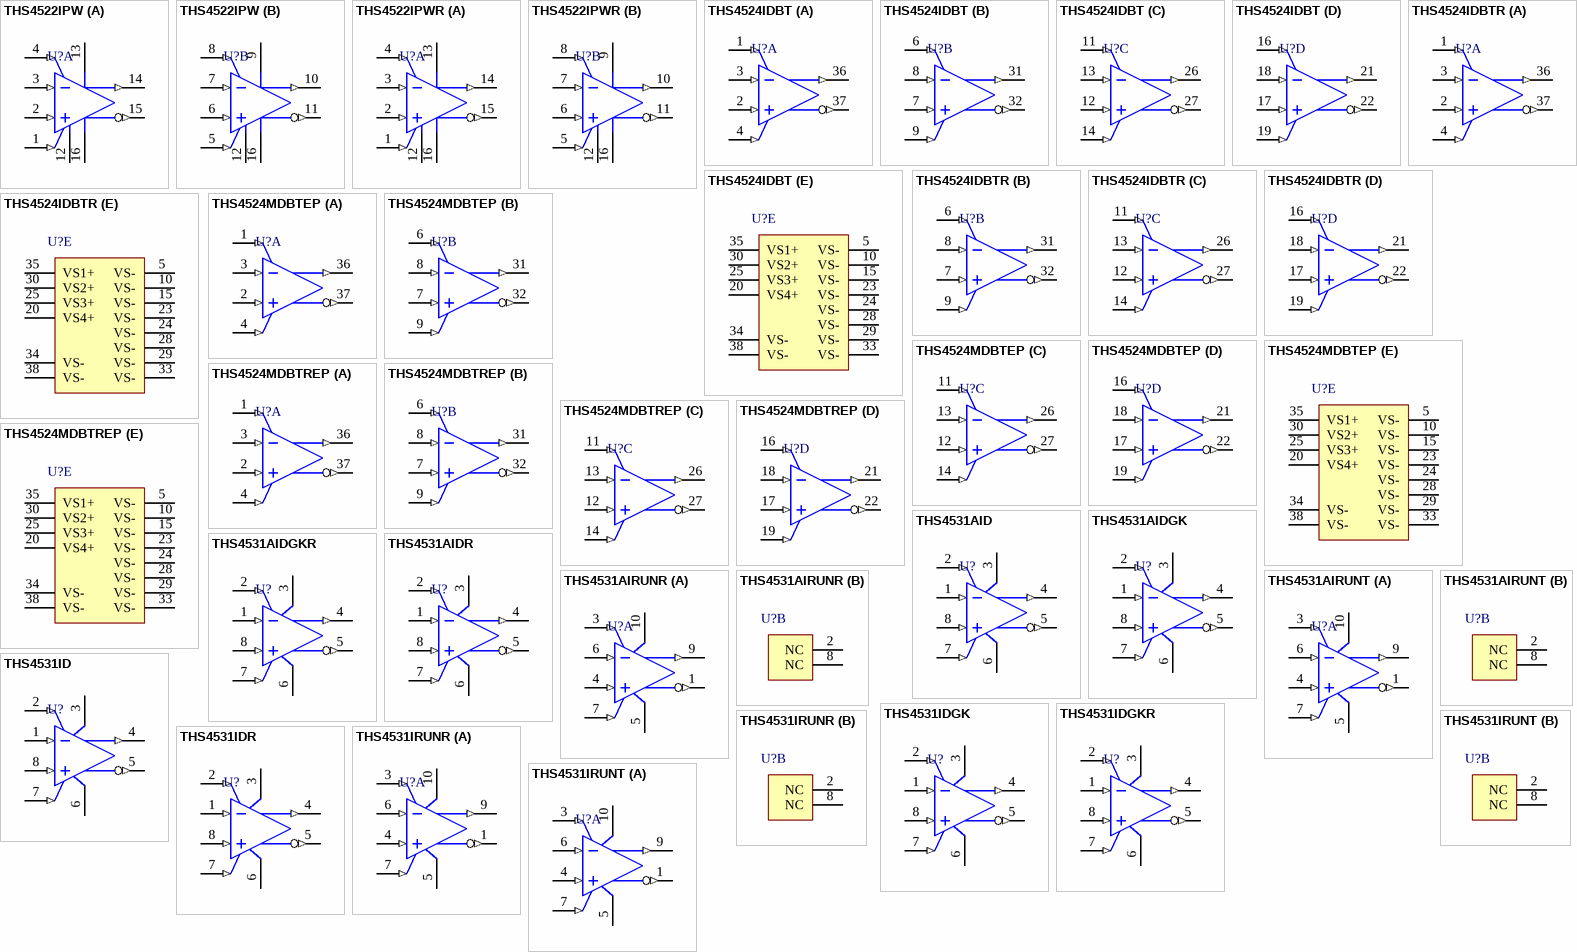
[diagram p6: symbols THS4522IPW to THS4531IRUNT]

## THS4522IPW
designator U?
Very Low Power Dual Channel Rail-to-Rail Output Fully Differential Amplifier, 2.5 to 5.5 V, -40 to 85 degC, 16-pin SOP (PW16), Green (RoHS & no Sb/Br); Manufacturer: Texas Instruments; PartNumber: THS4522IPW; 2nd Harmonic(dBc): 122; 3rd Harmonic(dBc): 141; @ MHz: 0.01; BW @ Acl(MHz): 145; Io(Typ)(mA): 55; Iq per channel(Max)(mA): 1.25; Number of Channels: 2; Rail-Rail: Out; Settling Time (0.1%)(Typ)(ns): 10; Slew Rate(Typ)(V/us): 490; Vn at Flatband(Typ)(nV/rtHz): 4.6; Vs(Max)(V): 5.5; Vs(Min)(V): 2.5; DatasheetVersion: SBOS458F; PackageVersion: 4040064-4/G, 02/2011; PackageReference: PW16; PackageDescription: 16-Pin Plastic Small Outline, Body 5 x 4.4 mm, Pitch 0.65 mm; Supplier 1: Digi-Key; Supplier Part Number 1: 296-24071-5-ND; Supplier 2: Farnell; Supplier Part Number 2: 1755709; Supplier 3: Newark; Supplier Part Number 3: 45P8208; Supplier 4: Mouser; Supplier Part Number 4: 595-THS4522IPW; Eco-Plan: Green (RoHS & no Sb/Br); SubFamily: Fully Differential Amplifier; Vio(Max)(mV): 2; Mounting Technology: Surface Mount; Code_JEDEC: MO-153; ComponentLink1Description: Manufacturer URL; ComponentLink1URL: http://www.ti.com/; ComponentLink2Description: Datasheet; ComponentLink2URL: http://www.ti.com/general/docs/lit/getliterature.tsp?genericPartNumber=THS4522&fileType=pdf; ComponentLink3Description: Package Specification; ComponentLink3URL: http://www.ti.com/lit/ml/mpds361/mpds361.pdf
footprint TI-PW16_N (SOP, 16-Leads, Body 5x4.4mm, Pitch 0.65mm, IPC Medium Density)
footprint TI-PW16_L (SOP, 16-Leads, Body 5x4.4mm, Pitch 0.65mm, IPC High Density)
footprint TI-PW16_M (SOP, 16-Leads, Body 5x4.4mm, Pitch 0.65mm, IPC Low Density)
pins on every part: 12 VS- (power) "Negative power-supply input. Note VS- tied together on multichannel devices", 16 VS- (power) "Negative power-supply input. Note VS- tied together on multichannel devices"
part A pins: 1 ~{PD}1 (in) "Power-down 1, P\D\ = logic low = low power mode, P\D\ = logic high = normal operation (PIN MUST BE DRIVEN)", 2 VIN1+ (in) "Noninverting amplifier 1 input", 3 VIN1- (in) "Inverting amplifier 1 input", 4 VOCM1 (in) "Common-mode voltage input 1", 13 VS1+ (power) "Amplifier 1 positive power-supply input", 14 VOUT1+ (out) "Noninverting amplifier 1 output", 15 VOUT1- (out) "Inverting amplifier 1 output"
part B pins: 5 ~{PD}2 (in) "Amplifier 2 Power-down, P\D\ = logic low = low power mode, P\D\ = logic high = normal operation (PIN MUST BE DRIVEN)", 6 VIN2+ (in) "Noninverting amplifier 2 input", 7 VIN2- (in) "Inverting amplifier 2 input", 8 VOCM2 (in) "Common-mode voltage input 2", 9 VS2+ (power) "Amplifier 2 positive power-supply input", 10 VOUT2+ (out) "Noninverting amplifier 2 output", 11 VOUT2- (out) "Inverting amplifier 2 output"

## THS4522IPWR
designator U?
Very Low Power Dual Channel Rail-to-Rail Output Fully Differential Amplifier, 2.5 to 5.5 V, -40 to 85 degC, 16-pin SOP (PW16), Green (RoHS & no Sb/Br); Manufacturer: Texas Instruments; PartNumber: THS4522IPWR; 2nd Harmonic(dBc): 122; 3rd Harmonic(dBc): 141; @ MHz: 0.01; BW @ Acl(MHz): 145; Io(Typ)(mA): 55; Iq per channel(Max)(mA): 1.25; Number of Channels: 2; Rail-Rail: Out; Settling Time (0.1%)(Typ)(ns): 10; Slew Rate(Typ)(V/us): 490; Vn at Flatband(Typ)(nV/rtHz): 4.6; Vs(Max)(V): 5.5; Vs(Min)(V): 2.5; DatasheetVersion: SBOS458F; PackageVersion: 4040064-4/G, 02/2011; PackageReference: PW16; PackageDescription: 16-Pin Plastic Small Outline, Body 5 x 4.4 mm, Pitch 0.65 mm; Supplier 1: Digi-Key; Supplier Part Number 1: THS4522IPWR-ND; Supplier 2: Newark; Supplier Part Number 2: 45P8209; Supplier 3: Mouser; Supplier Part Number 3: 595-THS4522IPWR; Eco-Plan: Green (RoHS & no Sb/Br); SubFamily: Fully Differential Amplifier; Vio(Max)(mV): 2; Mounting Technology: Surface Mount; Code_JEDEC: MO-153; ComponentLink1Description: Manufacturer URL; ComponentLink1URL: http://www.ti.com/; ComponentLink2Description: Datasheet; ComponentLink2URL: http://www.ti.com/general/docs/lit/getliterature.tsp?genericPartNumber=THS4522&fileType=pdf; ComponentLink3Description: Package Specification; ComponentLink3URL: http://www.ti.com/lit/ml/mpds361/mpds361.pdf
footprint TI-PW16_N (SOP, 16-Leads, Body 5x4.4mm, Pitch 0.65mm, IPC Medium Density)
footprint TI-PW16_L (SOP, 16-Leads, Body 5x4.4mm, Pitch 0.65mm, IPC High Density)
footprint TI-PW16_M (SOP, 16-Leads, Body 5x4.4mm, Pitch 0.65mm, IPC Low Density)
pins on every part: 12 VS- (power) "Negative power-supply input. Note VS- tied together on multichannel devices", 16 VS- (power) "Negative power-supply input. Note VS- tied together on multichannel devices"
part A pins: 1 ~{PD}1 (in) "Power-down 1, P\D\ = logic low = low power mode, P\D\ = logic high = normal operation (PIN MUST BE DRIVEN)", 2 VIN1+ (in) "Noninverting amplifier 1 input", 3 VIN1- (in) "Inverting amplifier 1 input", 4 VOCM1 (in) "Common-mode voltage input 1", 13 VS1+ (power) "Amplifier 1 positive power-supply input", 14 VOUT1+ (out) "Noninverting amplifier 1 output", 15 VOUT1- (out) "Inverting amplifier 1 output"
part B pins: 5 ~{PD}2 (in) "Amplifier 2 Power-down, P\D\ = logic low = low power mode, P\D\ = logic high = normal operation (PIN MUST BE DRIVEN)", 6 VIN2+ (in) "Noninverting amplifier 2 input", 7 VIN2- (in) "Inverting amplifier 2 input", 8 VOCM2 (in) "Common-mode voltage input 2", 9 VS2+ (power) "Amplifier 2 positive power-supply input", 10 VOUT2+ (out) "Noninverting amplifier 2 output", 11 VOUT2- (out) "Inverting amplifier 2 output"